# EAGLE library part LT1377 (library work)
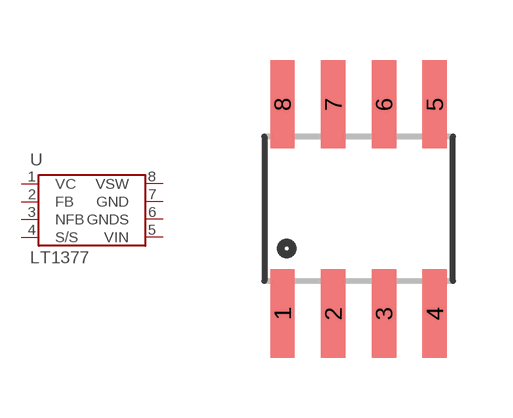
[diagram p3: symbol with the pads of SOIC-8; footprint SOIC-8]

Designator prefix -

## LT1377  [SOIC-8]
1  VC
2  FB
3  NFB
4  S/S
5  VIN
6  GNDS
7  GND
8  VSW

## Footprint SOIC-8 (pad centres in mm)
smd 0.61 x 2.21: 1 -1.905,-2.616; 2 -0.635,-2.616; 3 0.635,-2.616; 4 1.905,-2.616; 5 1.905,2.616; 6 0.635,2.616; 7 -0.635,2.616; 8 -1.905,2.616